# Altium schematic symbol library resistors.SchLib: 7 symbols
Pins are listed as number, name and electrical type; pins without a type are passive.

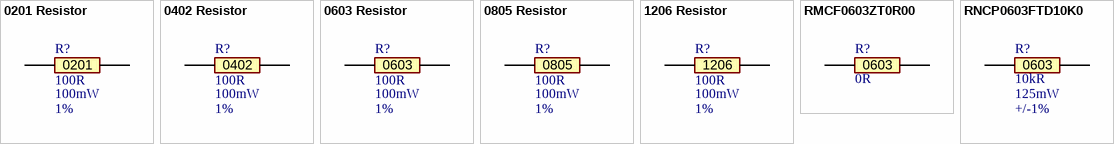
[diagram p0: symbols 0201 Resistor to RNCP0603FTD10K0]

## 0201 Resistor
designator R?, comment value 100R  TOLERANCE: 1%  RATED_POWER: 100mW  (hidden comment: Generic)
0201 Generic Resistor; PADS: 2; COMPOSITION: *; COMP_TYPE: *; COMP_TYPE_SUB: *; DEVICE_CREATION_METHOD: *; DEVICE_VERIFIED: *; DISTRIBUTOR1: *; DISTRIBUTOR1_ORDER_CODE: *; DISTRIBUTOR2: *; DISTRIBUTOR2_ORDER_CODE: *; FUNCTION: *; HEIGHT: *; MANUFACTURER: *; MOUNTING_STYLE: *; MSL: *; OPERATING_TEMP_MAX: *; OPERATING_TEMP_MIN: *; PACKAGE: 0201; PART_NUMBER: *; PINS: 0; PITCH: *; POP_UNPOP: *; ROHS_EU_COMPLIANT: *; TEMPERATURE_COEFFICIENT: *; Parameter 1: *; ComponentLink1Description: DIGIKEY; ComponentLink1URL: *; ComponentLink2Description: DATASHEET; ComponentLink2URL: *
pins: 1, 2

## 0402 Resistor
designator R?, comment value 100R  TOLERANCE: 1%  RATED_POWER: 100mW  (hidden comment: Generic)
0402 Generic Resistor; PADS: 2; COMPOSITION: *; COMP_TYPE: *; COMP_TYPE_SUB: *; DEVICE_CREATION_METHOD: *; DEVICE_VERIFIED: *; DISTRIBUTOR1: *; DISTRIBUTOR1_ORDER_CODE: *; DISTRIBUTOR2: *; DISTRIBUTOR2_ORDER_CODE: *; FUNCTION: *; HEIGHT: *; MANUFACTURER: *; MOUNTING_STYLE: *; MSL: *; OPERATING_TEMP_MAX: *; OPERATING_TEMP_MIN: *; PACKAGE: 0402; PART_NUMBER: *; PINS: 0; PITCH: *; POP_UNPOP: *; ROHS_EU_COMPLIANT: *; TEMPERATURE_COEFFICIENT: *; Parameter 1: *; ComponentLink1Description: DIGIKEY; ComponentLink1URL: *; ComponentLink2Description: DATASHEET; ComponentLink2URL: *
pins: 1, 2

## 0603 Resistor
designator R?, comment value 100R  TOLERANCE: 1%  RATED_POWER: 100mW  (hidden comment: Generic)
0603 Generic Resistor; PADS: 2; COMPOSITION: *; COMP_TYPE: *; COMP_TYPE_SUB: *; DEVICE_CREATION_METHOD: *; DEVICE_VERIFIED: *; DISTRIBUTOR1: *; DISTRIBUTOR1_ORDER_CODE: *; DISTRIBUTOR2: *; DISTRIBUTOR2_ORDER_CODE: *; FUNCTION: *; HEIGHT: *; MANUFACTURER: *; MOUNTING_STYLE: *; MSL: *; OPERATING_TEMP_MAX: *; OPERATING_TEMP_MIN: *; PACKAGE: 0603; PART_NUMBER: *; PINS: 0; PITCH: *; POP_UNPOP: *; ROHS_EU_COMPLIANT: *; TEMPERATURE_COEFFICIENT: *; Parameter 1: *; ComponentLink1Description: DIGIKEY; ComponentLink1URL: *; ComponentLink2Description: DATASHEET; ComponentLink2URL: *
pins: 1, 2

## 0805 Resistor
designator R?, comment value 100R  TOLERANCE: 1%  RATED_POWER: 100mW  (hidden comment: Generic)
0805 Generic Resistor; PADS: 2; COMPOSITION: *; COMP_TYPE: *; COMP_TYPE_SUB: *; DEVICE_CREATION_METHOD: *; DEVICE_VERIFIED: *; DISTRIBUTOR1: *; DISTRIBUTOR1_ORDER_CODE: *; DISTRIBUTOR2: *; DISTRIBUTOR2_ORDER_CODE: *; FUNCTION: *; HEIGHT: *; MANUFACTURER: *; MOUNTING_STYLE: *; MSL: *; OPERATING_TEMP_MAX: *; OPERATING_TEMP_MIN: *; PACKAGE: 0805; PART_NUMBER: *; PINS: 0; PITCH: *; POP_UNPOP: *; ROHS_EU_COMPLIANT: *; TEMPERATURE_COEFFICIENT: *; Parameter 1: *; ComponentLink1Description: DIGIKEY; ComponentLink1URL: *; ComponentLink2Description: DATASHEET; ComponentLink2URL: *
pins: 1, 2

## 1206 Resistor
designator R?, comment value 100R  TOLERANCE: 1%  RATED_POWER: 100mW  (hidden comment: Generic)
1206 Generic Resistor; PADS: 2; COMPOSITION: *; COMP_TYPE: *; COMP_TYPE_SUB: *; DEVICE_CREATION_METHOD: *; DEVICE_VERIFIED: *; DISTRIBUTOR1: *; DISTRIBUTOR1_ORDER_CODE: *; DISTRIBUTOR2: *; DISTRIBUTOR2_ORDER_CODE: *; FUNCTION: *; HEIGHT: *; MANUFACTURER: *; MOUNTING_STYLE: *; MSL: *; OPERATING_TEMP_MAX: *; OPERATING_TEMP_MIN: *; PACKAGE: 1206; PART_NUMBER: *; PINS: 0; PITCH: *; POP_UNPOP: *; ROHS_EU_COMPLIANT: *; TEMPERATURE_COEFFICIENT: *; Parameter 1: *; ComponentLink1Description: DIGIKEY; ComponentLink1URL: *; ComponentLink2Description: DATASHEET; ComponentLink2URL: *
pins: 1, 2

## RMCF0603ZT0R00
designator R?  value 0R
RES 0 OHM JUMPER 1/10W 0603; MANUFACTURER: Stackpole Electronics Inc; PART_NUMBER: RMCF0603ZT0R00; COMP_TYPE: Resistor; DEVICE_CREATION_METHOD: Manual Entry; DEVICE_VERIFIED: No; MOUNTING_STYLE: Surface Mount; OPERATING_TEMP_MAX: +155C; OPERATING_TEMP_MIN: -55C; PADS: 2; RATED_POWER: 100mW; TOLERANCE: +/-1%; COMPOSITION: Thick Film; COMP_TYPE_SUB: Jumper; DISTRIBUTOR1: Digikey; DISTRIBUTOR1_ORDER_CODE: RMCF0603ZT0R00CT-ND; DISTRIBUTOR2: Mouser; DISTRIBUTOR2_ORDER_CODE: 708-RMCF0603ZT0R00; FUNCTION: Jumper; HEIGHT: 0.55mm; MSL: 1 (Unlimited); PACKAGE: 0603; PINS: 0; PITCH: N/A; POP_UNPOP: *; ROHS_EU_COMPLIANT: Yes; TEMPERATURE_COEFFICIENT: N/A; ComponentLink1Description: DIGIKEY; ComponentLink1URL: https://www.digikey.co.uk/en/products/detail/stackpole-electronics-inc/RMCF0603ZT0R00/1756908; ComponentLink2Description: DATASHEET; ComponentLink2URL: https://www.seielect.com/catalog/SEI-RMCF_RMCP.pdf; Supplier 1: Avnet; Supplier Part Number 1: RMCF0603ZT0R00
footprint 0603 Resistor
pins: 1, 2

## RNCP0603FTD10K0
designator R?  value 10kR  TOLERANCE: +/-1%  RATED_POWER: 125mW
RES 10K OHM 1% 1/8W 0603; MANUFACTURER: Stackpole Electronics Inc; PART_NUMBER: RNCP0603FTD10K0; COMP_TYPE: Resistor; COMP_TYPE_SUB: Not Specified; DEVICE_CREATION_METHOD: Manual Entry; DEVICE_VERIFIED: No; MOUNTING_STYLE: Surface Mount; OPERATING_TEMP_MAX: +155C; OPERATING_TEMP_MIN: -55C; PADS: 2; TEMPERATURE_COEFFICIENT: +/-100PPM/C; COMPOSITION: Thin Film; DISTRIBUTOR1: Digikey; DISTRIBUTOR1_ORDER_CODE: RNCP0603FTD10K0CT-ND; DISTRIBUTOR2: Mouser; DISTRIBUTOR2_ORDER_CODE: 708-RNCP0603FTD10K0; FUNCTION: Not Specified; HEIGHT: 0.55mm; MSL: 1 (Unlimited); PACKAGE: 0603; PINS: 0; PITCH: N/A; POP_UNPOP: *; ROHS_EU_COMPLIANT: Yes; ComponentLink1Description: DIGIKEY; ComponentLink1URL: https://www.digikey.co.uk/en/products/detail/vishay-dale/RCA060310K0FKEASR/27687762?s=N4IgTCBcDaIEoGECCAGAbCgzARhQaRQDE8BRJAZThAF0BfIA; ComponentLink2Description: DATASHEET; ComponentLink2URL: https://www.seielect.com/catalog/SEI-RNCP.pdf; Supplier 1: Avnet; Supplier Part Number 1: RNCP0603FTD10K0
footprint 0603 Resistor
pins: 1, 2